# Altium footprint library PCB - POWER INDUCTORS - BOURNS SRN4018.PcbLib: 1 footprints
Each footprint in its own frame and in the unit in brackets; x right, y up, seen from the top. Pads: shape width x height; smd on the part's side, far side on the other; paste and mask are expansions set on the pad; w line width, h text height; cw(c..) or ccw(c..) is an arc to the next point about the centre after c.
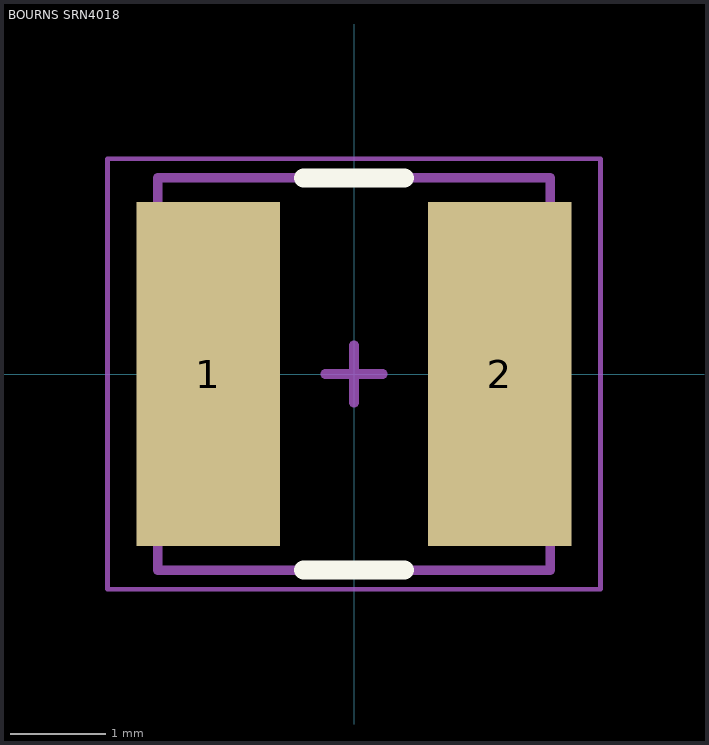
[diagram p0: the footprint, top view; thin cyan lines are the x and y axes]

## BOURNS SRN4018 [mm] "Power Inductor, 2-Leads, Bourns, SRN4018-220M"
height 1.8
pads (2):
  rect 1.5x3.6 smd: 1(-1.525,0) 2(1.525,0)
Top Overlay:
  lines w0.2: -0.525,-2.05 0.525,-2.05 ; -0.525,2.05 0.525,2.05
Mechanical 13:
  lines w0.1: -2.05,-2.05 -2.05,2.05 2.05,2.05 2.05,-2.05 -2.05,-2.05
Mechanical 15 (Mech15):
  lines w0.05: -2.575,-2.25 -2.575,2.25 2.575,2.25 2.575,-2.25 -2.575,-2.25
  lines w0.1: -0.3,0 0.3,0 ; 0,-0.3 0,0.3
3D body "Bourns - SRN4018.step": height 1.8, standoff 0, extent -2.05,-2.05 2.05,2.05